# Altium schematic symbol library SMF533KFT.SchLib: 1 symbol
Pins are listed as number, name and electrical type; pins without a type are passive.

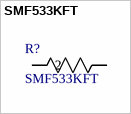
[diagram p0: symbol SMF533KFT]

## SMF533KFT
designator R?
No Description Available; Mfr_Name: TE Connectivity; Copyright: Copyright (C) 2024 Ultra Librarian. All rights reserved.; Manufacturer_Part_Number: SMF533KFT; RefDes: RefDes; Type: DEV
footprint RES_SMF5_TYCO_TYC
pins: 1, 2